# Altium footprint library OltestLib_popadjuk.PcbLib: 113 footprints (part 8 of 8)
Each footprint in its own frame and in the unit in brackets; x right, y up, seen from the top. Pads: shape width x height; smd on the part's side, far side on the other; paste and mask are expansions set on the pad; w line width, h text height; cw(c..) or ccw(c..) is an arc to the next point about the centre after c.
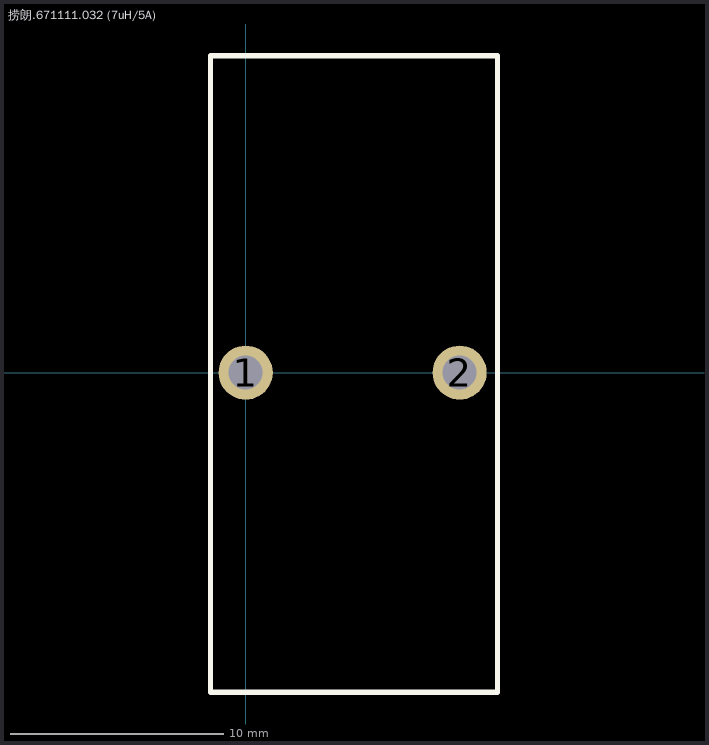
[diagram p7: the footprint, top view; thin cyan lines are the x and y axes]

## 捞朗.671111.032 (7uH/5A) [mil]
pads (2):
  round 100 hole 63: 1(0,0) 2(395,0)
Top Overlay:
  lines w10: -65,-590 -65,-585 -65,550 -65,585 455,585 465,585 465,-575 465,-590 -65,-590
3D body: height 455, standoff 0, extent -104.98,-314.98 524.98,314.98
3D body: height 1120, standoff 0, extent -25,-564.85 430,554.85